# Altium footprint library 0603.PcbLib: 3 footprints
Each footprint in its own frame and in the unit in brackets; x right, y up, seen from the top. Pads: shape width x height; smd on the part's side, far side on the other; paste and mask are expansions set on the pad; w line width, h text height; cw(c..) or ccw(c..) is an arc to the next point about the centre after c.
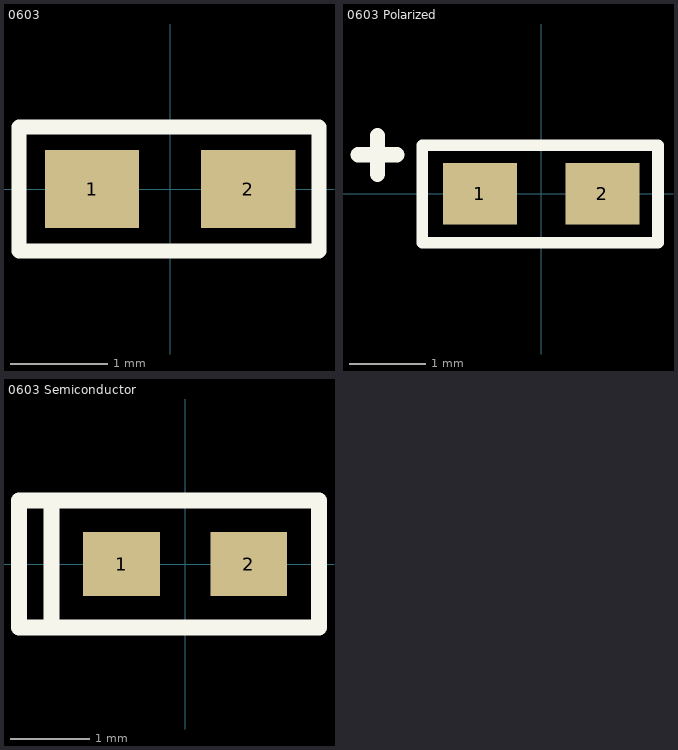
[diagram p0: the footprints below, top view; thin cyan lines are the x and y axes]

## 0603 [mm]
pads (2):
  rect 0.965x0.8 smd: 1(-0.8,0) 2(0.8,0)
Top Overlay:
  lines w0.15: -1.549,-0.635 1.524,-0.635 1.524,0.635 -1.549,0.635 -1.549,-0.635
3D body: height 0.45, standoff 0, extent 0.475,-0.425 0.775,0.425
3D body: height 0.45, standoff 0, extent -0.775,-0.425 -0.475,0.425
3D body: height 0.45, standoff 0, extent -0.475,-0.425 0.475,0.425

## 0603 Polarized [mm]
pads (2):
  rect 0.965x0.8 smd: 1(-0.8,0) 2(0.8,0)
Top Overlay:
  lines w0.15: -1.549,-0.635 1.524,-0.635 1.524,0.635 -1.549,0.635 -1.549,-0.635
  lines w0.2: -2.388,0.508 -1.88,0.508 ; -2.134,0.254 -2.134,0.762
3D body: height 0.45, standoff 0, extent 0.475,-0.425 0.775,0.425
3D body: height 0.45, standoff 0, extent -0.775,-0.425 -0.475,0.425
3D body: height 0.45, standoff 0, extent -0.475,-0.425 0.475,0.425

## 0603 Semiconductor [mm]
pads (2):
  rect 0.965x0.8 smd: 1(-0.8,0) 2(0.8,0)
Top Overlay:
  lines w0.2: -1.682,-0.8 -1.682,0.8 ; -2.089,-0.8 -2.089,0.8 1.683,0.8 1.683,-0.8 -2.089,-0.8
3D body: height 0.45, standoff 0, extent 0.475,-0.425 0.775,0.425
3D body: height 0.45, standoff 0, extent -0.775,-0.425 -0.475,0.425
3D body: height 0.45, standoff 0, extent -0.475,-0.425 0.475,0.425